# Altium footprint library Copy of PcbLib2.PcbLib: 2 footprints
Each footprint in its own frame and in the unit in brackets; x right, y up, seen from the top. Pads: shape width x height; smd on the part's side, far side on the other; paste and mask are expansions set on the pad; w line width, h text height; cw(c..) or ccw(c..) is an arc to the next point about the centre after c.
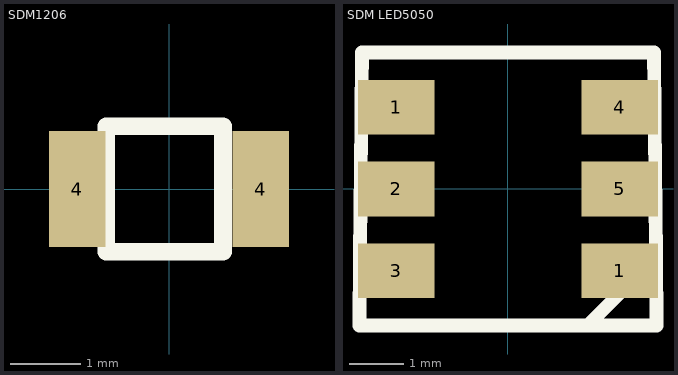
[diagram p0: the footprints below, top view; thin cyan lines are the x and y axes]

## SDM1206 [mm]
pads (2):
  rect 0.8x1.65 smd: 4(-1.3,0) 4(1.3,0)
Top Overlay:
  lines w0.254: -0.889,-0.889 0.762,-0.889 0.762,0.889 -0.889,0.889 -0.889,-0.889

## SDM LED5050 [mm]
pads (6):
  rect 1.4x1 smd: 1(-2.05,1.5) 1(2.05,-1.5) 2(-2.05,0) 3(-2.05,-1.5) 4(2.05,1.5) 5(2.05,0)
Top Overlay:
  lines w0.254: 1.536,-2.425 2.71,-1.25 ; 2.71,-1.25 2.72,-2.5 -2.72,-2.5 -2.71,-1.25 -2.69,1.25 -2.68,2.5 2.68,2.5 2.69,1.25 2.71,-1.25
3D body "LED SMD 5050 White.stp": height 1.62, standoff 0, extent -2.7,-2.413 2.7,2.587
3D body: height 0.25, standoff 0, extent 0,0 0,0